# Altium footprint library SOT95P280X145-5N.PcbLib: 1 footprints
Each footprint in its own frame and in the unit in brackets; x right, y up, seen from the top. Pads: shape width x height; smd on the part's side, far side on the other; paste and mask are expansions set on the pad; w line width, h text height; cw(c..) or ccw(c..) is an arc to the next point about the centre after c.
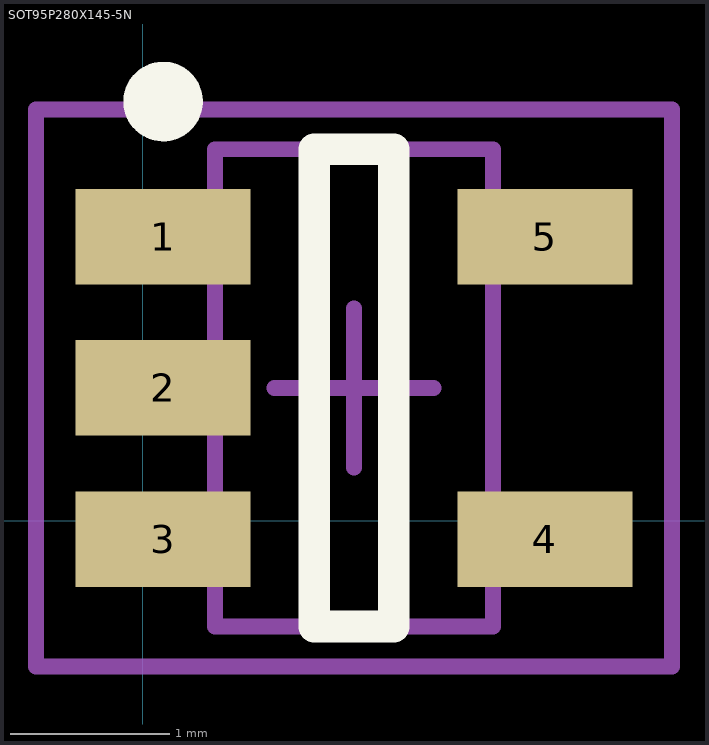
[diagram p0: the footprint, top view; thin cyan lines are the x and y axes]

## SOT95P280X145-5N [mm]
pads (5):
  rect 1.1x0.6 smd: 1(0.127,1.785) 2(0.127,0.835) 3(0.127,-0.115) 4(2.527,-0.115) 5(2.527,1.785)
Top Overlay:
  circle w0.25: c0.127,2.635 r0.125
  lines w0.2: 1.077,-0.665 1.577,-0.665 1.577,2.335 1.077,2.335 1.077,-0.665
Mechanical 13:
  lines w0.1: 0.452,-0.665 0.452,2.335 2.202,2.335 2.202,-0.665 0.452,-0.665
Mechanical 15:
  lines w0.1: 0.827,0.835 1.827,0.835 ; 1.327,0.335 1.327,1.335 ; -0.673,-0.915 -0.673,2.585 3.327,2.585 3.327,-0.915 -0.673,-0.915
3D body: height 1.45, standoff 0, extent 0.452,-0.665 2.202,2.335